# EAGLE library part EVQQ3 (library EVQQ3)
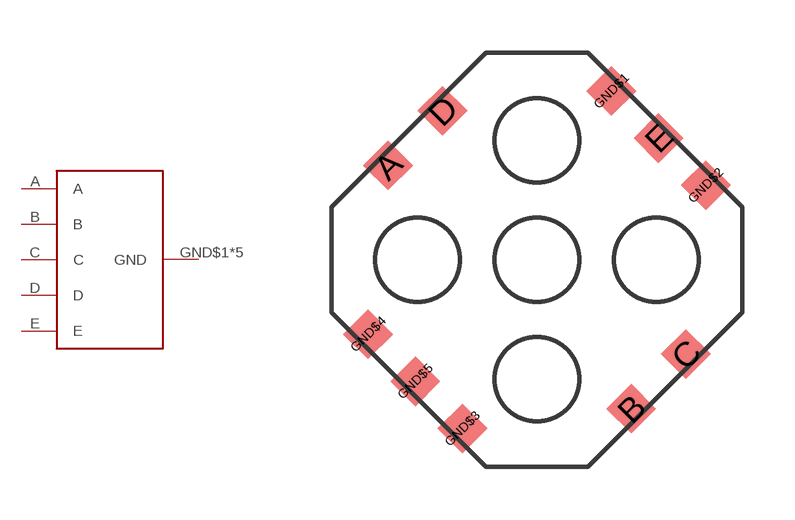
[diagram p0: symbol with the pads of EVQQ3; footprint EVQQ3]

Designator prefix J

## EVQQ3  [EVQQ3]
A  A
B  B
C  C
D  D
E  E
GND$1  GND
GND$2  GND
GND$3  GND
GND$4  GND
GND$5  GND

## Footprint EVQQ3 (pad centres in mm)
smd 1 x 1 rotated 45: A -4.243,2.687; B 2.687,-4.243; C 4.243,-2.687; D -2.687,4.243; E 3.465,3.465; GND$1 2.121,4.808; GND$2 4.808,2.121; GND$3 -2.121,-4.808; GND$4 -4.808,-2.121; GND$5 -3.465,-3.465